# EAGLE library part PIN1X16_254 (library Pinheader)
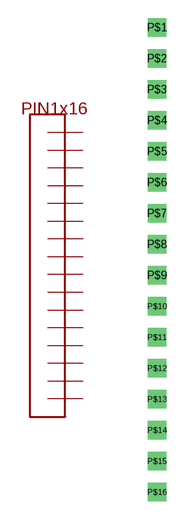
[diagram p1: symbol with the pads of PIN1X16_254; footprint PIN1X16_254]

Designator prefix -

## PIN1X16_254  [PIN1X16_254]
P$1  P$1
P$2  P$2
P$3  P$3
P$4  P$4
P$5  P$5
P$6  P$6
P$7  P$7
P$8  P$8
P$9  P$9
P$10  P$10
P$11  P$11
P$12  P$12
P$13  P$13
P$14  P$14
P$15  P$15
P$16  P$16

## Footprint PIN1X16_254 (pad centres in mm)
drill 1 square: P$1 0,17.78; P$2 0,15.24; P$3 0,12.7; P$4 0,10.16; P$5 0,7.62; P$6 0,5.08; P$7 0,2.54; P$8 0,0; P$9 0,-2.54; P$10 0,-5.08; P$11 0,-7.62; P$12 0,-10.16; P$13 0,-12.7; P$14 0,-15.24; P$15 0,-17.78; P$16 0,-20.32